# EAGLE library part AK130/24 (library PTR_AK130)
ANSCHLUSSKLEMME AK130 (24POLIG)
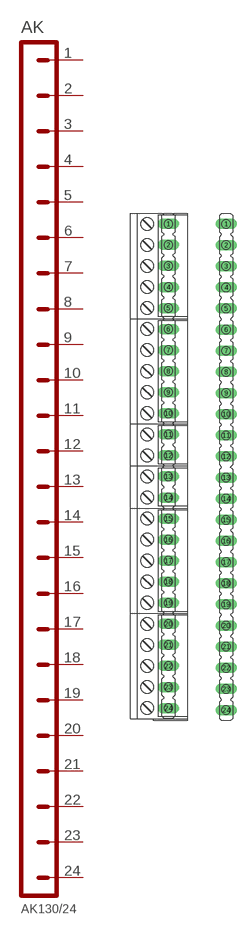
[diagram p18: symbol with the pads of AK24; footprints AK24, STL24]

Designator prefix AK

## AK130/24  [AK24]
1  P$1
2  P$2
3  P$3
4  P$4
5  P$5
6  P$6
7  P$7
8  P$8
9  P$9
10  P$10
11  P$11
12  P$12
13  P$13
14  P$14
15  P$15
16  P$16
17  P$17
18  P$18
19  P$19
20  P$20
21  P$21
22  P$22
23  P$23
24  P$24

## AK130/24_STL  [STL24]
Pads as for AK24

## Footprint AK24 (pad centres in mm)
AK130 (24POLIG) 2x AK130/2-5.0-GRAU 4x AK130/5-5.0-GRAU STL130/24-5.0-V-SCHWARZ
drill 1.5 pad 2.54 long: 1 0,57.5; 2 0,52.5; 3 0,47.5; 4 0,42.5; 5 0,37.5; 6 0,32.5; 7 0,27.5; 8 0,22.5; 9 0,17.5; 10 0,12.5; 11 0,7.5; 12 0,2.5; 13 0,-2.5; 14 0,-7.5; 15 0,-12.5; 16 0,-17.5; 17 0,-22.5; 18 0,-27.5; 19 0,-32.5; 20 0,-37.5; 21 0,-42.5; 22 0,-47.5; 23 0,-52.5; 24 0,-57.5

## Footprint STL24 (pad centres in mm)
STL130 (24POLIG) STL130/24-5.0-V-SCHWARZ
drill 1.5 pad 2.54 long: 1 0,57.5; 2 0,52.5; 3 0,47.5; 4 0,42.5; 5 0,37.5; 6 0,32.5; 7 0,27.5; 8 0,22.5; 9 0,17.5; 10 0,12.5; 11 0,7.5; 12 0,2.5; 13 0,-2.5; 14 0,-7.5; 15 0,-12.5; 16 0,-17.5; 17 0,-22.5; 18 0,-27.5; 19 0,-32.5; 20 0,-37.5; 21 0,-42.5; 22 0,-47.5; 23 0,-52.5; 24 0,-57.5